# Altium footprint library PCB - LEADLESS - QFN - TI VQFN-24 RHF0024A.PcbLib: 1 footprints
Each footprint in its own frame and in the unit in brackets; x right, y up, seen from the top. Pads: shape width x height; smd on the part's side, far side on the other; paste and mask are expansions set on the pad; w line width, h text height; cw(c..) or ccw(c..) is an arc to the next point about the centre after c.
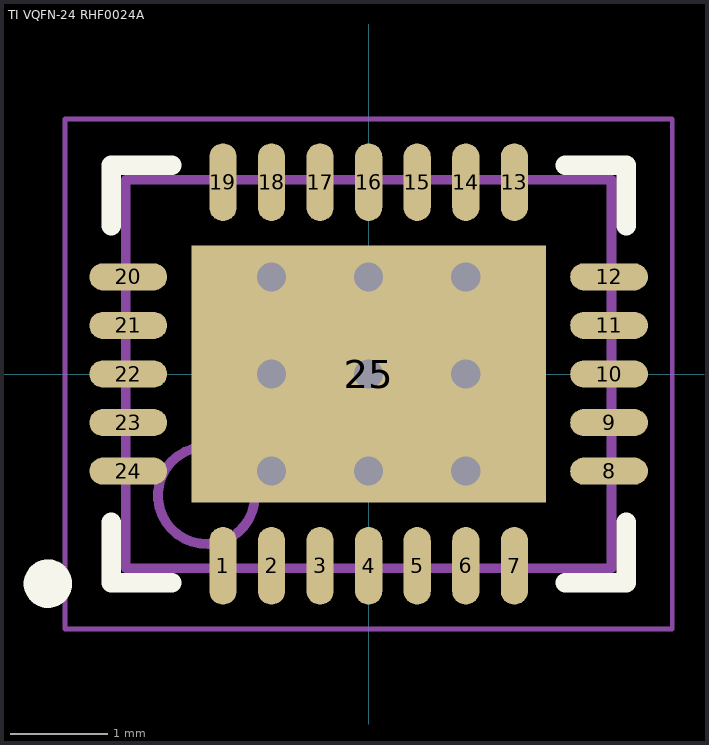
[diagram p0: the footprint, top view; thin cyan lines are the x and y axes]

## TI VQFN-24 RHF0024A [mm] "QFN, 24-Leads, Body 5.00x4.00mm, Pitch 0.50mm, Thermal Pad 3.65x2.65mm, IPC Medium Density"
height 1
pads (25):
  oval 0.28x0.8 smd: 1(-1.5,-1.975) 2(-1,-1.975) 3(-0.5,-1.975) 4(0,-1.975) 5(0.5,-1.975) 6(1,-1.975) 7(1.5,-1.975) 13(1.5,1.975) 14(1,1.975) 15(0.5,1.975) 16(0,1.975) 17(-0.5,1.975) 18(-1,1.975) 19(-1.5,1.975)
  oval 0.8x0.28 smd: 8(2.475,-1) 9(2.475,-0.5) 10(2.475,0) 11(2.475,0.5) 12(2.475,1) 20(-2.475,1) 21(-2.475,0.5) 22(-2.475,0) 23(-2.475,-0.5) 24(-2.475,-1)
  rect 3.65x2.65 smd: 25(0,0)
via 0,0 diameter 0.5 hole 0.3
via 1,0 diameter 0.5 hole 0.3
via -1,0 diameter 0.5 hole 0.3
via -1,1 diameter 0.5 hole 0.3
via 1,1 diameter 0.5 hole 0.3
via 0,1 diameter 0.5 hole 0.3
via 0,-1 diameter 0.5 hole 0.3
via -1,-1 diameter 0.5 hole 0.3
via 1,-1 diameter 0.5 hole 0.3
Top Overlay:
  circle w0.25: c-3.302,-2.159 r0.125
  lines w0.2: -2.65,-1.525 -2.65,-2.15 -2.025,-2.15 ; -2.65,1.525 -2.65,2.15 -2.025,2.15 ; 2.025,-2.15 2.65,-2.15 2.65,-1.525 ; 2.025,2.15 2.65,2.15 2.65,1.525
Mechanical 13:
  circle w0.1: c-1.67,-1.25 r0.5
  lines w0.1: -2.5,-2 2.5,-2 2.5,2 -2.5,2 -2.5,-2
Mechanical 15:
  lines w0.05: -3.125,-2.625 -3.125,2.625 3.125,2.625 3.125,-2.625 -3.125,-2.625
  lines w0.1: -0.5,0 0.5,0 ; 0,-0.5 0,0.5
3D body "TI - VQFN-24 - RHF0024A v1.step": height 1, standoff 0, extent -2.5,-2 2.5,2